# Altium footprint library mypcb.PcbLib: 7 footprints
Each footprint in its own frame and in the unit in brackets; x right, y up, seen from the top. Pads: shape width x height; smd on the part's side, far side on the other; paste and mask are expansions set on the pad; w line width, h text height; cw(c..) or ccw(c..) is an arc to the next point about the centre after c.
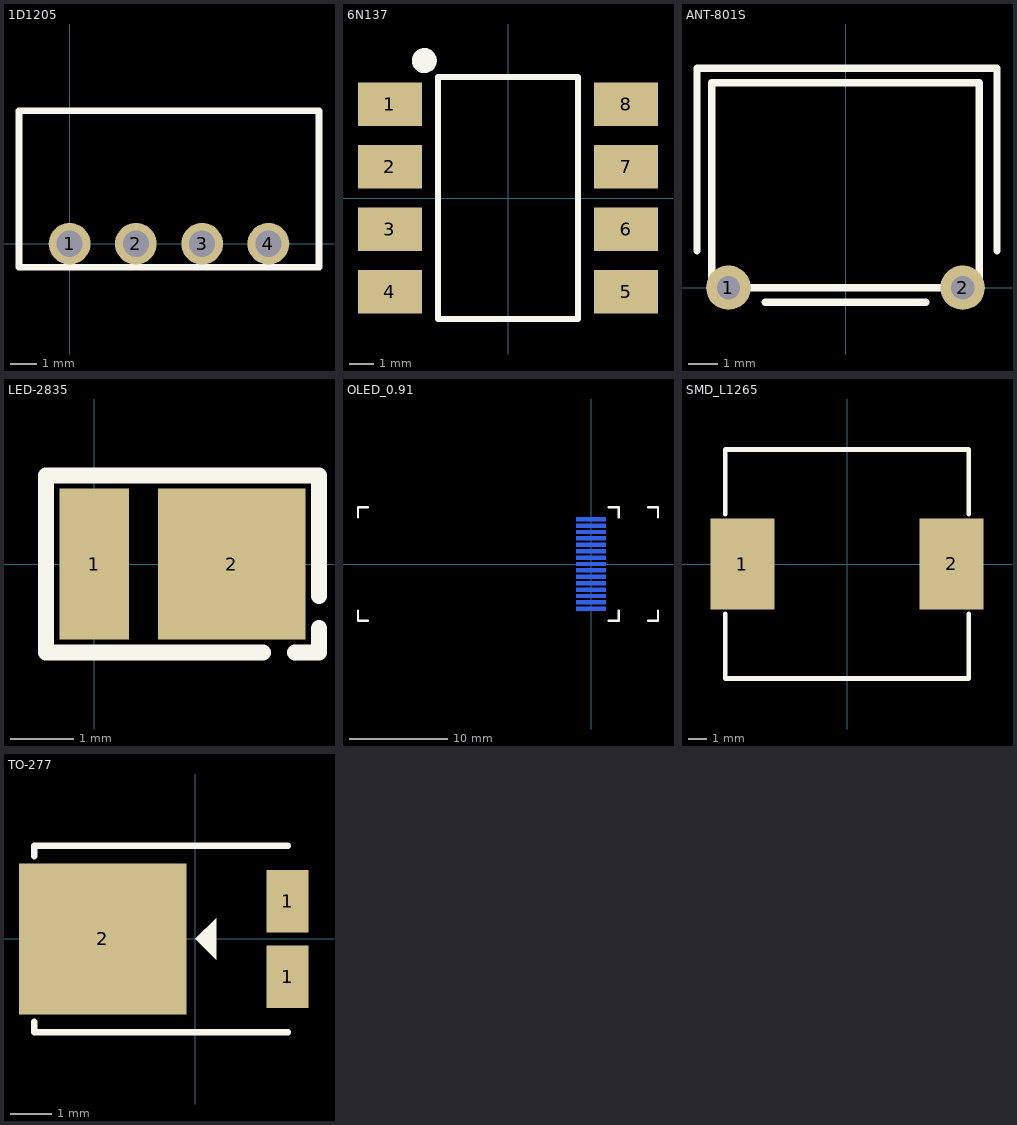
[diagram p0: the footprints below, top view; thin cyan lines are the x and y axes]

## 1D1205 [mm]
pads (4):
  round 1.6 hole 1: 1(0,0) 2(2.54,0) 3(5.08,0) 4(7.62,0)
Top Overlay:
  lines w0.254: -1.94,-0.9 -1.94,5.1 9.56,5.1 9.56,-0.9 -1.94,-0.9

## 6N137 [mm]
pads (8):
  rect 2.6x1.78 smd: 1(-4.8,3.81) 2(-4.8,1.27) 3(-4.8,-1.27) 4(-4.8,-3.81) 5(4.8,-3.81) 6(4.8,-1.27) 7(4.8,1.27) 8(4.8,3.81)
Top Overlay:
  circle w0.508: c-3.403,5.588 r0.254
  lines w0.254: -2.851,-4.916 2.851,-4.916 2.851,4.916 -2.851,4.916 -2.851,-4.916

## ANT-801S [mm] "震动传感器"
pads (2):
  round 1.524 hole 0.8: 1(-4,0) 2(4,0)
Top Overlay:
  lines w0.254: -5.075,1.25 -5.075,7.5 5.175,7.5 5.175,1.25 ; -2.75,-0.5 2.75,-0.5 ; -4.575,0 -4.575,7 4.575,7 4.575,0 -4.575,0

## LED-2835 [mm]
pads (2):
  rect 1.1x2.38 smd: 1(0,0)
  rect 2.33x2.38 smd: 2(2.175,0)
Top Overlay:
  lines w0.254: 2.667,-1.397 -0.764,-1.397 -0.764,1.397 3.554,1.397 ; 2.992,1.397 3.554,1.397 ; 3.175,-1.397 3.554,-1.397 3.554,-1.016 ; 3.554,-0.508 3.554,1.397

## OLED_0.91 [mm]
pads (15):
  rect 3x0.4 smd far side: 1(0,-4.55) 2(0,-3.9) 3(0,-3.25) 4(0,-2.6) 5(0,-1.95) 6(0,-1.3) 7(0,-0.65) 8(0,0) 9(0,0.65) 10(0,1.3) 11(0,1.95) 12(0,2.6) 13(0,3.25) 14(0,3.9) 15(0,4.55)
Top Overlay:
  lines w0.254: -23.7,-4.75 -23.7,-5.75 -22.7,-5.75 ; -23.7,4.75 -23.7,5.75 -22.7,5.75 ; 1.8,-5.75 2.8,-5.75 2.8,-4.75 ; 1.8,5.75 2.8,5.75 2.8,4.75 ; 5.8,-5.75 6.8,-5.75 6.8,-4.75 ; 5.8,5.75 6.8,5.75 6.8,4.75
Bottom Overlay:
  lines w0.127: -2.5,-4.5 -2.5,-4.5 ; -2.5,-4.5 -3,-5 -3,-4 -2.5,-4.5 ; -2.5,-4.5 -2.5,-4.5
  lines w0.254: -2,-5 -2,5

## SMD_L1265 [mm]
pads (2):
  rect 3.5x5 smd: 1(-5.75,0) 2(5.75,0)
Top Overlay:
  lines w0.254: -6.7,-2.731 -6.7,-6.3 6.7,-6.3 6.7,-2.731 ; -6.7,2.731 -6.7,6.3 6.7,6.3 6.7,2.731

## TO-277 [mm]
pads (3):
  rect 1x1.5 smd: 1(2.21,-0.9) 1(2.21,0.9)
  rect 4x3.6 smd: 2(-2.21,0)
Top Overlay:
  region: 0,0 0.5,0.5 0.5,-0.5
  lines w0.152: -3.844,-1.98 -3.844,-2.229 2.218,-2.229 ; -3.844,1.98 -3.844,2.229 2.218,2.229